# EAGLE library part MC9S12C32 (library Freescale)
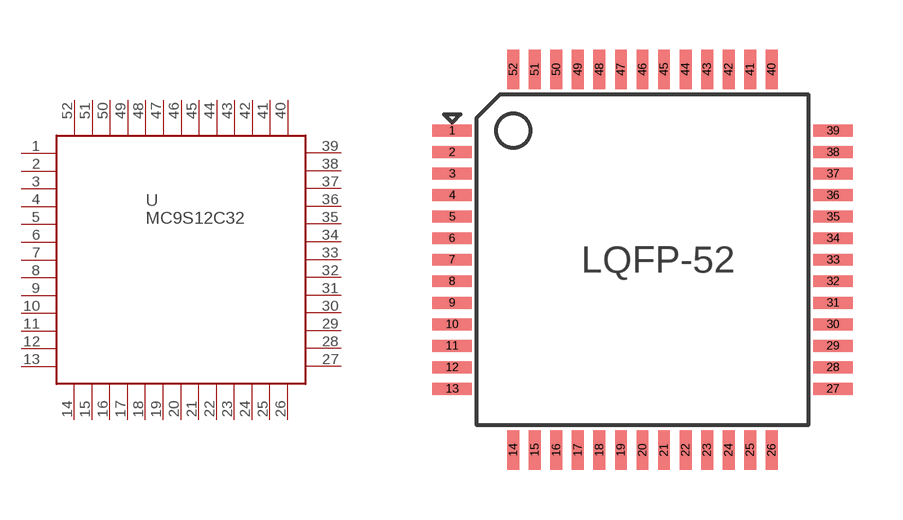
[diagram p2: symbol with the pads of LQFP-52; footprint LQFP-52]

Designator prefix -

## MC9S12C32  [LQFP-52]
1  P$1
2  P$2
3  P$3
4  P$4
5  P$5
6  P$6
7  P$7
8  P$8
9  P$9
10  P$10
11  P$11
12  P$12
13  P$13
14  P$14
15  P$15
16  P$16
17  P$17
18  P$18
19  P$19
20  P$20
21  P$21
22  P$22
23  P$23
24  P$24
25  P$25
26  P$26
27  P$27
28  P$28
29  P$29
30  P$30
31  P$31
32  P$32
33  P$33
34  P$34
35  P$35
36  P$36
37  P$37
38  P$38
39  P$39
40  P$40
41  P$41
42  P$42
43  P$43
44  P$44
45  P$45
46  P$46
47  P$47
48  P$48
49  P$49
50  P$50
51  P$51
52  P$52

## Footprint LQFP-52 (pad centres in mm)
smd 1.2 x 0.36: 1 -5.75,3.9; 2 -5.75,3.25; 3 -5.75,2.6; 4 -5.75,1.95; 5 -5.75,1.3; 6 -5.75,0.65; 7 -5.75,0; 8 -5.75,-0.65; 9 -5.75,-1.3; 10 -5.75,-1.95; 11 -5.75,-2.6; 12 -5.75,-3.25; 13 -5.75,-3.9; 27 5.75,-3.9; 28 5.75,-3.25; 29 5.75,-2.6; 30 5.75,-1.95; 31 5.75,-1.3; 32 5.75,-0.65; 33 5.75,0; 34 5.75,0.65; 35 5.75,1.3; 36 5.75,1.95; 37 5.75,2.6; 38 5.75,3.25; 39 5.75,3.9
smd 0.36 x 1.2: 14 -3.9,-5.75; 15 -3.25,-5.75; 16 -2.6,-5.75; 17 -1.95,-5.75; 18 -1.3,-5.75; 19 -0.65,-5.75; 20 0,-5.75; 21 0.65,-5.75; 22 1.3,-5.75; 23 1.95,-5.75; 24 2.6,-5.75; 25 3.25,-5.75; 26 3.9,-5.75; 40 3.9,5.75; 41 3.25,5.75; 42 2.6,5.75; 43 1.95,5.75; 44 1.3,5.75; 45 0.65,5.75; 46 0,5.75; 47 -0.65,5.75; 48 -1.3,5.75; 49 -1.95,5.75; 50 -2.6,5.75; 51 -3.25,5.75; 52 -3.9,5.75